# EAGLE library part MC05/07 (library con-phoenix-250)
COMBICON MC - 1881493
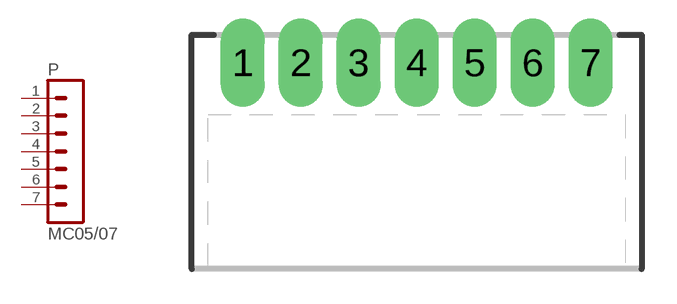
[diagram p1: symbol with the pads of MC05/07; footprint MC05/07]

Designator prefix P

## MC05/07  [MC05/07]
1  1  pas
2  2  pas
3  3  pas
4  4  pas
5  5  pas
6  6  pas
7  7  pas

## Footprint MC05/07 (pad centres in mm)
HEADER
drill 1.27 long: 1 -7.5,0; 2 -5,0; 3 -2.5,0; 4 0,0; 5 2.5,0; 6 5,0; 7 7.5,0